# Altium schematic symbol library 震动.SchLib: 1 symbol
Pins are listed as number, name and electrical type; pins without a type are passive.

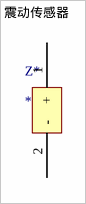
[diagram p0: symbol 震动传感器]

## 震动传感器
designator Z*
pins: 1 +, 2 -